# EAGLE library part 5569-6 (library myradio)
Main Board I/O Connector Molex 5569-6
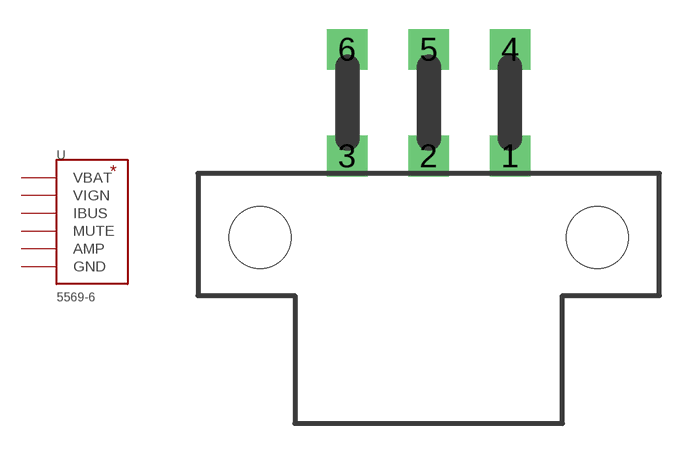
[diagram p4: symbol with the pads of 5569-6; footprint 5569-6]

Designator prefix -

## 5569-6  [5569-6]
1  VBAT  sup
2  VIGN  sup
3  IBUS
4  MUTE  out
5  AMP
6  GND  sup

## Footprint 5569-6 (pad centres in mm)
Mini FIT connector 6 R/A
drill 1.4 square: 1 4.2,0; 2 0,0; 3 -4.2,0; 4 4.2,5.5; 5 0,5.5; 6 -4.2,5.5
hole 3.2 at 8.7,-4.2
hole 3.2 at -8.7,-4.2